# Altium footprint library CAPS.PcbLib: 166 footprints (part 10 of 11)
Each footprint in its own frame and in the unit in brackets; x right, y up, seen from the top. Pads: shape width x height; smd on the part's side, far side on the other; paste and mask are expansions set on the pad; w line width, h text height; cw(c..) or ccw(c..) is an arc to the next point about the centre after c.
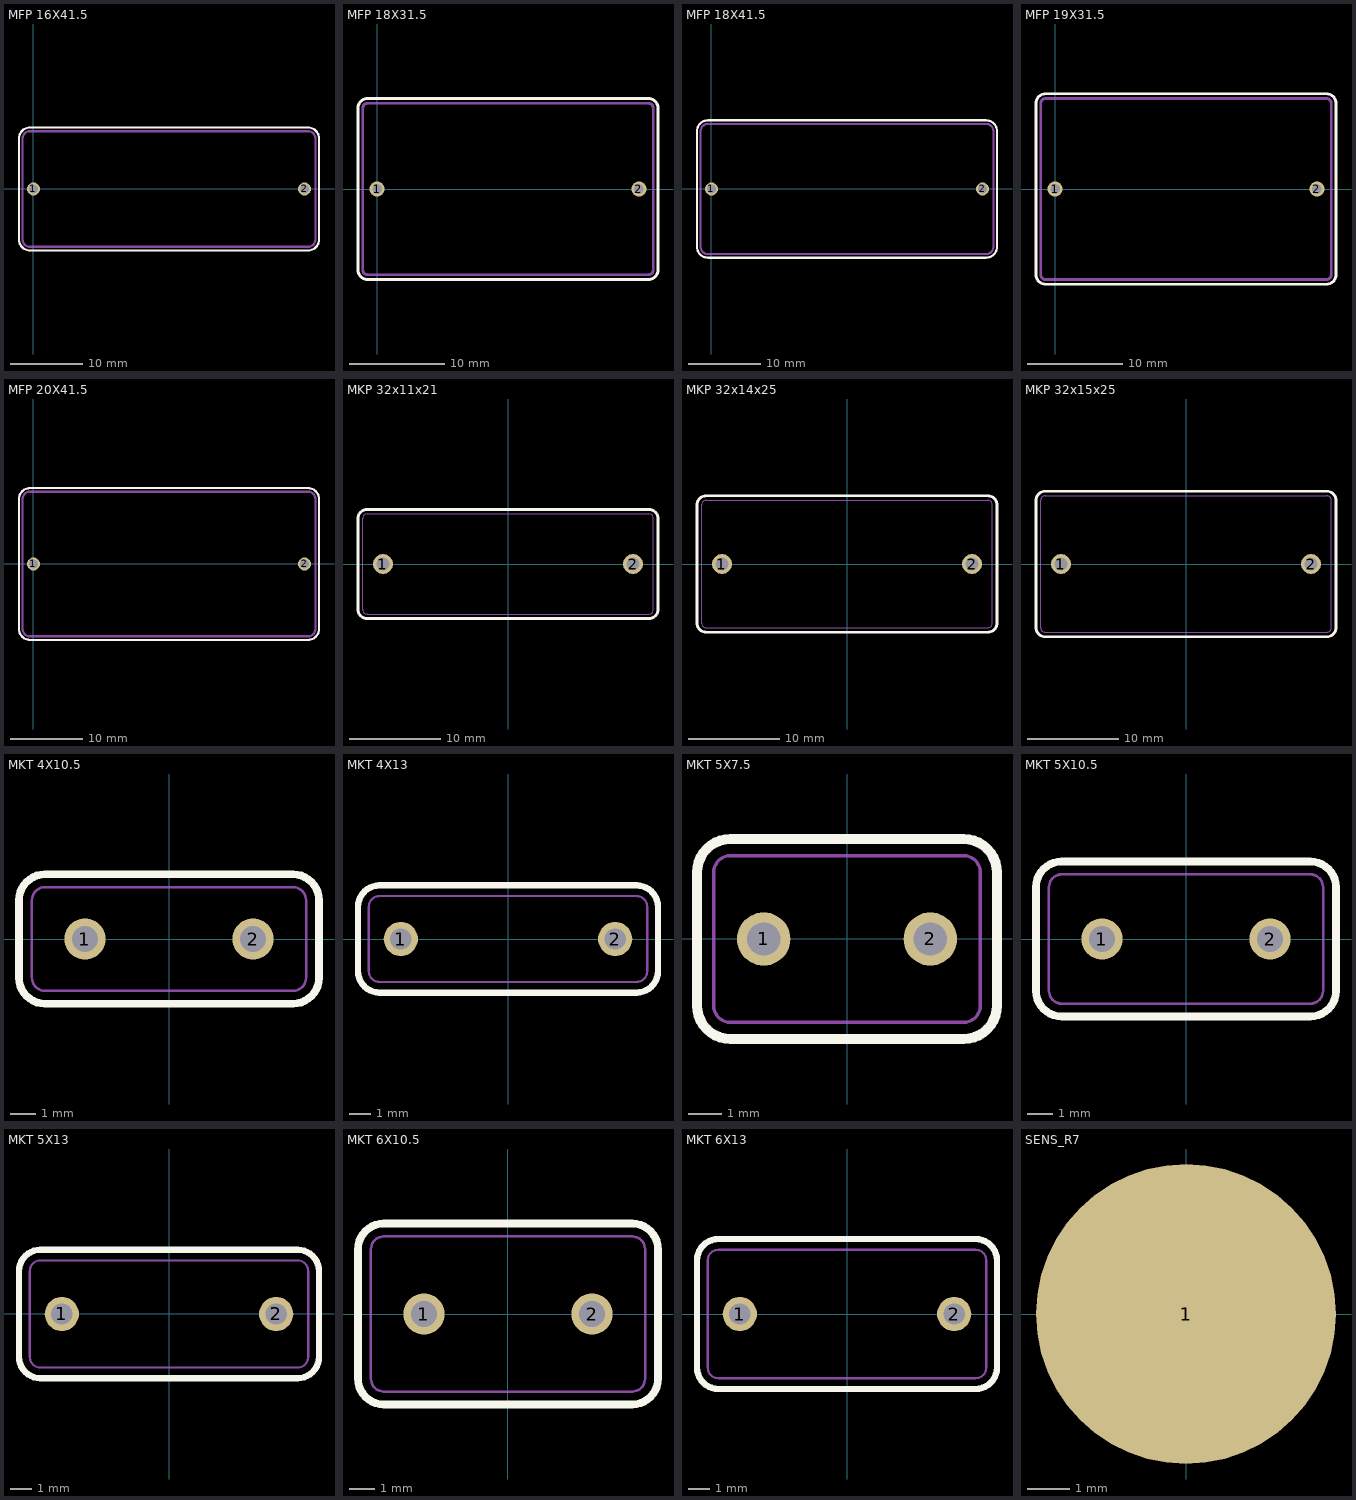
[diagram p9: the footprints below, top view; thin cyan lines are the x and y axes]

## MFP 16X41.5 [mm]
pads (2):
  round 1.8 hole 1.2: 1(0,0) 2(37.5,0)
Top Overlay:
  lines w0.3: -2,-7 ccw(c-0.5,-7) -0.5,-8.5 38,-8.5 ccw(c38,-7) 39.5,-7 39.5,7 ccw(c38,7) 38,8.5 -0.5,8.5 ccw(c-0.5,7) -2,7 -2,-7
Mechanical 1:
  lines w0.3: -1.5,-7 ccw(c-0.5,-7) -0.5,-8 38,-8 ccw(c38,-7) 39,-7 39,7 ccw(c38,7) 38,8 -0.5,8 ccw(c-0.5,7) -1.5,7 -1.5,-7

## MFP 18X31.5 [mm]
pads (2):
  round 1.6 hole 1: 1(0,0) 2(27.5,0)
Top Overlay:
  lines w0.3: -2,-8.5 ccw(c-1,-8.5) -1,-9.5 28.5,-9.5 ccw(c28.5,-8.5) 29.5,-8.5 29.5,8.5 ccw(c28.5,8.5) 28.5,9.5 -1,9.5 ccw(c-1,8.5) -2,8.5 -2,-8.5
Mechanical 1:
  lines w0.3: -1.5,-8.5 ccw(c-1,-8.5) -1,-9 28.5,-9 ccw(c28.5,-8.5) 29,-8.5 29,8.5 ccw(c28.5,8.5) 28.5,9 -1,9 ccw(c-1,8.5) -1.5,8.5 -1.5,-8.5

## MFP 18X41.5 [mm]
pads (2):
  round 1.8 hole 1.2: 1(0,0) 2(37.5,0)
Top Overlay:
  lines w0.3: -2,-8 ccw(c-0.5,-8) -0.5,-9.5 38,-9.5 ccw(c38,-8) 39.5,-8 39.5,8 ccw(c38,8) 38,9.5 -0.5,9.5 ccw(c-0.5,8) -2,8 -2,-8
Mechanical 1:
  lines w0.3: -1.5,-8 ccw(c-0.5,-8) -0.5,-9 38,-9 ccw(c38,-8) 39,-8 39,8 ccw(c38,8) 38,9 -0.5,9 ccw(c-0.5,8) -1.5,8 -1.5,-8

## MFP 19X31.5 [mm]
pads (2):
  round 1.6 hole 1: 1(0,0) 2(27.5,0)
Top Overlay:
  lines w0.3: -2,-9 ccw(c-1,-9) -1,-10 28.5,-10 ccw(c28.5,-9) 29.5,-9 29.5,9 ccw(c28.5,9) 28.5,10 -1,10 ccw(c-1,9) -2,9 -2,-9
Mechanical 1:
  lines w0.3: -1.5,-9 ccw(c-1,-9) -1,-9.5 28.5,-9.5 ccw(c28.5,-9) 29,-9 29,9 ccw(c28.5,9) 28.5,9.5 -1,9.5 ccw(c-1,9) -1.5,9 -1.5,-9

## MFP 20X41.5 [mm]
pads (2):
  round 1.8 hole 1.2: 1(0,0) 2(37.5,0)
Top Overlay:
  lines w0.3: -2,-9 ccw(c-0.5,-9) -0.5,-10.5 38,-10.5 ccw(c38,-9) 39.5,-9 39.5,9 ccw(c38,9) 38,10.5 -0.5,10.5 ccw(c-0.5,9) -2,9 -2,-9
Mechanical 1:
  lines w0.3: -1.5,-9 ccw(c-0.5,-9) -0.5,-10 38,-10 ccw(c38,-9) 39,-9 39,9 ccw(c38,9) 38,10 -0.5,10 ccw(c-0.5,9) -1.5,9 -1.5,-9

## MKP 32x11x21 [mm]
height 21
pads (2):
  round 2.2 hole 1.4: 1(-13.75,0) 2(13.75,0)
Top Overlay:
  lines w0.3: -16.5,-5 ccw(c-15.5,-5) -15.5,-6 15.5,-6 ccw(c15.5,-5) 16.5,-5 16.5,5 ccw(c15.5,5) 15.5,6 -15.5,6 ccw(c-15.5,5) -16.5,5 -16.5,-5
Mechanical 1:
  lines w0.1: -16,-5 ccw(c-15.5,-5) -15.5,-5.5 15.5,-5.5 ccw(c15.5,-5) 16,-5 16,5 ccw(c15.5,5) 15.5,5.5 -15.5,5.5 ccw(c-15.5,5) -16,5 -16,-5
3D body: height 21, standoff 0.1, extent -16,-5.5 16,5.5

## MKP 32x14x25 [mm]
height 25
pads (2):
  round 2.2 hole 1.4: 1(-13.75,0) 2(13.75,0)
Top Overlay:
  lines w0.3: -16.5,-6.5 ccw(c-15.5,-6.5) -15.5,-7.5 15.5,-7.5 ccw(c15.5,-6.5) 16.5,-6.5 16.5,6.5 ccw(c15.5,6.5) 15.5,7.5 -15.5,7.5 ccw(c-15.5,6.5) -16.5,6.5 -16.5,-6.5
Mechanical 1:
  lines w0.1: -16,-6.5 ccw(c-15.5,-6.5) -15.5,-7 15.5,-7 ccw(c15.5,-6.5) 16,-6.5 16,6.5 ccw(c15.5,6.5) 15.5,7 -15.5,7 ccw(c-15.5,6.5) -16,6.5 -16,-6.5
3D body: height 25, standoff 0.1, extent -16,-7 16,7

## MKP 32x15x25 [mm]
height 25
pads (2):
  round 2.2 hole 1.4: 1(-13.75,0) 2(13.75,0)
Top Overlay:
  lines w0.3: -16.5,-7 ccw(c-15.5,-7) -15.5,-8 15.5,-8 ccw(c15.5,-7) 16.5,-7 16.5,7 ccw(c15.5,7) 15.5,8 -15.5,8 ccw(c-15.5,7) -16.5,7 -16.5,-7
Mechanical 1:
  lines w0.1: -16,-7 ccw(c-15.5,-7) -15.5,-7.5 15.5,-7.5 ccw(c15.5,-7) 16,-7 16,7 ccw(c15.5,7) 15.5,7.5 -15.5,7.5 ccw(c-15.5,7) -16,7 -16,-7
3D body: height 25, standoff 0.1, extent -16,-7.5 16,7.5

## MKT 4X10.5 [mm]
height 9
pads (2):
  round 1.6 hole 1: 1(-3.25,0) 2(3.25,0)
Top Overlay:
  lines w0.3: -5.8,-1.5 ccw(c-4.8,-1.5) -4.8,-2.5 4.8,-2.5 ccw(c4.8,-1.5) 5.8,-1.5 5.8,1.5 ccw(c4.8,1.5) 4.8,2.5 -4.8,2.5 ccw(c-4.8,1.5) -5.8,1.5 -5.8,-1.5
Mechanical 1:
  lines w0.1: -5.3,-1.5 ccw(c-4.8,-1.5) -4.8,-2 4.8,-2 ccw(c4.8,-1.5) 5.3,-1.5 5.3,1.5 ccw(c4.8,1.5) 4.8,2 -4.8,2 ccw(c-4.8,1.5) -5.3,1.5 -5.3,-1.5
3D body: height 9, standoff 0.1, extent -5.3,-2 5.3,2

## MKT 4X13 [mm]
height 9
pads (2):
  round 1.6 hole 1: 1(-5,0) 2(5,0)
Top Overlay:
  lines w0.3: -7,-1.5 ccw(c-6,-1.5) -6,-2.5 6,-2.5 ccw(c6,-1.5) 7,-1.5 7,1.5 ccw(c6,1.5) 6,2.5 -6,2.5 ccw(c-6,1.5) -7,1.5 -7,-1.5
Mechanical 1:
  lines w0.1: -6.5,-1.5 ccw(c-6,-1.5) -6,-2 6,-2 ccw(c6,-1.5) 6.5,-1.5 6.5,1.5 ccw(c6,1.5) 6,2 -6,2 ccw(c-6,1.5) -6.5,1.5 -6.5,-1.5
3D body: height 9, standoff 0.1, extent -6.5,-2 6.5,2

## MKT 5X7.5 [mm]
height 10
pads (2):
  round 1.6 hole 1: 1(-2.5,0) 2(2.5,0)
Top Overlay:
  lines w0.3: -4.5,-2 ccw(c-3.5,-2) -3.5,-3 3.5,-3 ccw(c3.5,-2) 4.5,-2 4.5,2 ccw(c3.5,2) 3.5,3 -3.5,3 ccw(c-3.5,2) -4.5,2 -4.5,-2
Mechanical 1:
  lines w0.1: -4,-2 ccw(c-3.5,-2) -3.5,-2.5 3.5,-2.5 ccw(c3.5,-2) 4,-2 4,2 ccw(c3.5,2) 3.5,2.5 -3.5,2.5 ccw(c-3.5,2) -4,2 -4,-2
3D body: height 10, standoff 0.1, extent -4,-2.5 4,2.5

## MKT 5X10.5 [mm]
height 11
pads (2):
  round 1.6 hole 1: 1(-3.25,0) 2(3.25,0)
Top Overlay:
  lines w0.3: -5.8,-2 ccw(c-4.8,-2) -4.8,-3 4.8,-3 ccw(c4.8,-2) 5.8,-2 5.8,2 ccw(c4.8,2) 4.8,3 -4.8,3 ccw(c-4.8,2) -5.8,2 -5.8,-2
Mechanical 1:
  lines w0.1: -5.3,-2 ccw(c-4.8,-2) -4.8,-2.5 4.8,-2.5 ccw(c4.8,-2) 5.3,-2 5.3,2 ccw(c4.8,2) 4.8,2.5 -4.8,2.5 ccw(c-4.8,2) -5.3,2 -5.3,-2
3D body: height 11, standoff 0.1, extent -5.3,-2.5 5.3,2.5

## MKT 5X13 [mm]
height 11
pads (2):
  round 1.6 hole 1: 1(-5,0) 2(5,0)
Top Overlay:
  lines w0.3: -7,-2 ccw(c-6,-2) -6,-3 6,-3 ccw(c6,-2) 7,-2 7,2 ccw(c6,2) 6,3 -6,3 ccw(c-6,2) -7,2 -7,-2
Mechanical 1:
  lines w0.1: -6.5,-2 ccw(c-6,-2) -6,-2.5 6,-2.5 ccw(c6,-2) 6.5,-2 6.5,2 ccw(c6,2) 6,2.5 -6,2.5 ccw(c-6,2) -6.5,2 -6.5,-2
3D body: height 11, standoff 0.1, extent -6.5,-2.5 6.5,2.5

## MKT 6X10.5 [mm]
height 12
pads (2):
  round 1.6 hole 1: 1(-3.25,0) 2(3.25,0)
Top Overlay:
  lines w0.3: -5.8,-2.5 ccw(c-4.8,-2.5) -4.8,-3.5 4.8,-3.5 ccw(c4.8,-2.5) 5.8,-2.5 5.8,2.5 ccw(c4.8,2.5) 4.8,3.5 -4.8,3.5 ccw(c-4.8,2.5) -5.8,2.5 -5.8,-2.5
Mechanical 1:
  lines w0.1: -5.3,-2.5 ccw(c-4.8,-2.5) -4.8,-3 4.8,-3 ccw(c4.8,-2.5) 5.3,-2.5 5.3,2.5 ccw(c4.8,2.5) 4.8,3 -4.8,3 ccw(c-4.8,2.5) -5.3,2.5 -5.3,-2.5
3D body: height 12, standoff 0.1, extent -5.3,-3 5.3,3

## MKT 6X13 [mm]
height 12
pads (2):
  round 1.6 hole 1: 1(-5,0) 2(5,0)
Top Overlay:
  lines w0.3: -7,-2.5 ccw(c-6,-2.5) -6,-3.5 6,-3.5 ccw(c6,-2.5) 7,-2.5 7,2.5 ccw(c6,2.5) 6,3.5 -6,3.5 ccw(c-6,2.5) -7,2.5 -7,-2.5
Mechanical 1:
  lines w0.1: -6.5,-2.5 ccw(c-6,-2.5) -6,-3 6,-3 ccw(c6,-2.5) 6.5,-2.5 6.5,2.5 ccw(c6,2.5) 6,3 -6,3 ccw(c-6,2.5) -6.5,2.5 -6.5,-2.5
3D body: height 12, standoff 0.1, extent -6.5,-3 6.5,3

## SENS_R7 [mm] "Touch capacitive sensor"
pads (1):
  round 7 smd paste-10 mask-10: 1(0,0)
Top Overlay:
  circle w0.2: c0,0 r2